# Altium footprint library SODFL520X260X95L97X135N.PcbLib: 1 footprints
Each footprint in its own frame and in the unit in brackets; x right, y up, seen from the top. Pads: shape width x height; smd on the part's side, far side on the other; paste and mask are expansions set on the pad; w line width, h text height; cw(c..) or ccw(c..) is an arc to the next point about the centre after c.
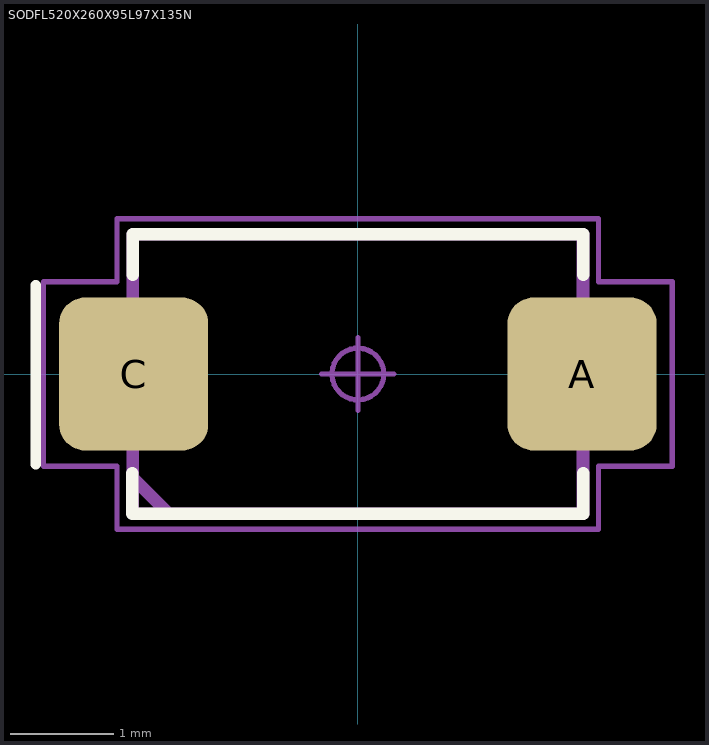
[diagram p0: the footprint, top view; thin cyan lines are the x and y axes]

## SODFL520X260X95L97X135N [mm] "Diode, Small Outline Diode, Flat Lead (SODFL); 4.25 mm L X 2.60 mm W X 1.00 mm H Body"
height 1
pads (2):
  rrect35% 1.44x1.479 smd: A(2.165,0) C(-2.165,0)
Top Overlay:
  lines w0.1: -3.11,-0.87 -3.11,0.86
  lines w0.12: -2.18,-0.96 -2.18,-1.35 2.175,-1.35 2.175,-0.96 ; -2.175,0.96 -2.175,1.35 2.175,1.35 2.175,0.96
Mechanical 3:
  lines w0.12: -2.175,-1 -2.175,1.35 2.175,1.35 2.175,-1.35 -1.825,-1.35 -2.175,-1
Mechanical 5:
  lines w0.025: -2.599,-0.675 -2.599,0.675 -1.625,0.675 -1.625,-0.675 -2.599,-0.675 ; -2.125,-1.3 2.125,-1.3 2.125,1.3 -2.125,1.3 -2.125,-1.3 ; 1.625,-0.675 2.599,-0.675 2.599,0.675 1.625,0.675 1.625,-0.675
Mechanical 7:
  circle w0.05: c0,0 r0.25
  lines w0.05: -0.35,0 0.35,0 ; 0,-0.35 0,0.35 ; -3.035,-0.89 -2.325,-0.89 -2.325,-1.5 2.325,-1.5 2.325,-0.89 3.035,-0.89 3.035,0.89 2.325,0.89 2.325,1.5 -2.325,1.5 -2.325,0.89 -3.035,0.89 -3.035,-0.89
Mechanical 9:
  text "'.Designator'" at -5.69,-0.271 h1.02
3D body "SODFL520X260X95L97X135.STEP": height 1, standoff 0, extent -2.6,-1.3 2.6,1.3
3D body: height 1, standoff 0, extent -3.035,-1.5 3.035,1.5